# Altium footprint library KF65-3P.PcbLib: 1 footprints
Each footprint in its own frame and in the unit in brackets; x right, y up, seen from the top. Pads: shape width x height; smd on the part's side, far side on the other; paste and mask are expansions set on the pad; w line width, h text height; cw(c..) or ccw(c..) is an arc to the next point about the centre after c.
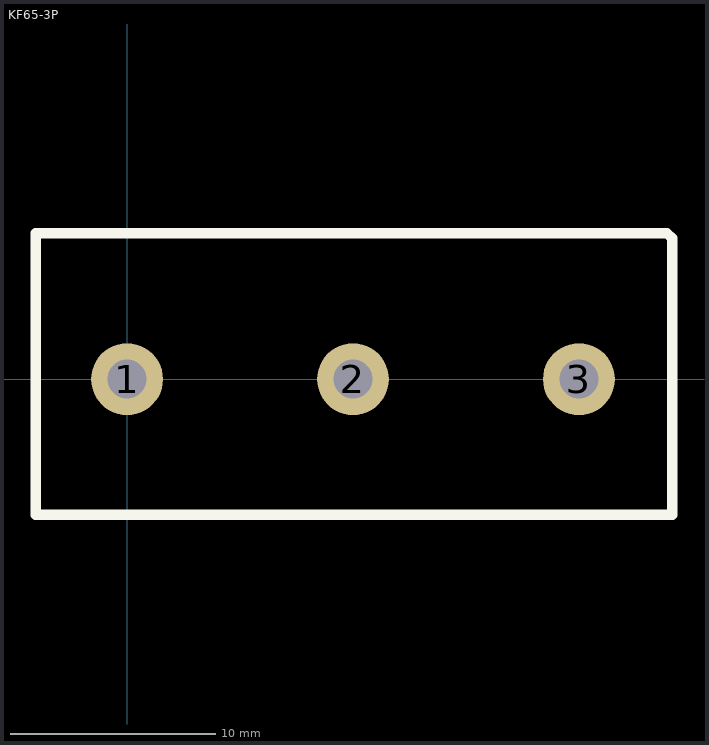
[diagram p0: the footprint, top view; thin cyan lines are the x and y axes]

## KF65-3P [mm]
pads (3):
  round 3.5 hole 1.9: 1(0,0) 2(11,0) 3(22,0)
Top Overlay:
  lines w0.5: -4.445,-6.604 26.543,-6.604 26.543,6.858 26.289,7.112 -4.445,7.112 -4.445,-6.604